# Altium footprint library passives.PCBLIB: 93 footprints (part 3 of 6)
Each footprint in its own frame and in the unit in brackets; x right, y up, seen from the top. Pads: shape width x height; smd on the part's side, far side on the other; paste and mask are expansions set on the pad; w line width, h text height; cw(c..) or ccw(c..) is an arc to the next point about the centre after c.
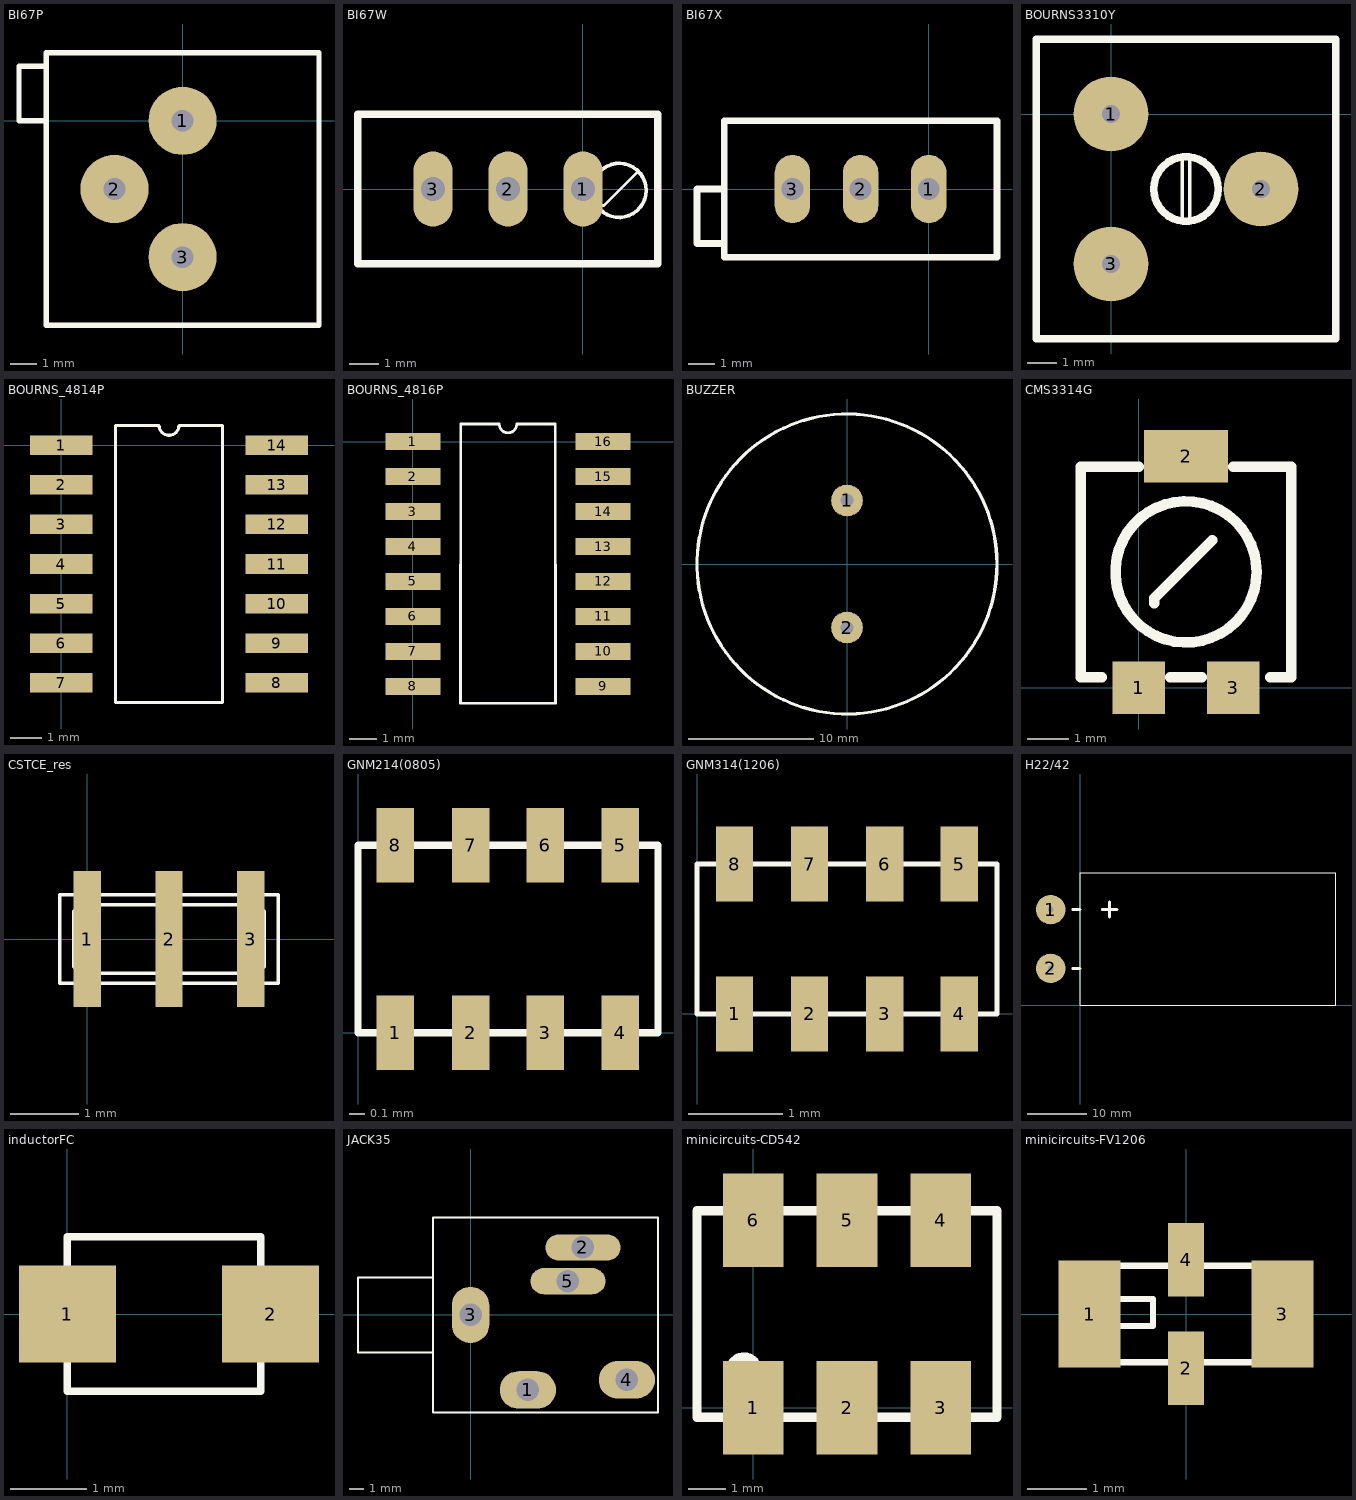
[diagram p2: the footprints below, top view; thin cyan lines are the x and y axes]

## BI67P [mil]
pads (3):
  round 100 hole 32: 1(0,0) 2(-100,-100) 3(0,-200)
Top Overlay:
  lines w8: -200,0 -240,0 -240,80 -200,80 ; -200,-300 -200,100 100,100 200,100 200,-300 -200,-300

## BI67W [mil]
pads (3):
  oval 52x100 hole 32: 1(0,0) 2(-100,0) 3(-200,0)
Top Overlay:
  circle w5: c48.16,-1.84 r36.06
  lines w3.94: 23.16,-21.84 28.16,-21.84 73.16,23.16
  lines w10: -300,-100 100,-100 100,100 -300,100 -300,-100

## BI67X [mil]
pads (3):
  oval 52x100 hole 32: 1(0,0) 2(-100,0) 3(-200,0)
Top Overlay:
  lines w10: -300,-80 -340,-80 -340,0 -300,0 ; -300,-100 100,-100 100,100 -300,100 -300,-100

## BOURNS3310Y [mil]
pads (3):
  round 100 hole 24: 1(0,0) 2(200,-100) 3(0,-200)
Top Overlay:
  circle w10: c100,-100 r43.01
  lines w5: 95,-145 95,-60 ; 105,-140 105,-60
  lines w10: -100,-300 -100,100 300,100 300,-300 -100,-300

## BOURNS_4814P [mm]
pads (14):
  rect 2x0.63 smd: 1(0,0) 2(0,-1.27) 3(0,-2.54) 4(0,-3.81) 5(0,-5.08) 6(0,-6.35) 7(0,-7.62) 8(6.9,-7.62) 9(6.9,-6.35) 10(6.9,-5.08) 11(6.9,-3.81) 12(6.9,-2.54) 13(6.9,-1.27) 14(6.9,0)
Top Overlay:
  lines w0.1: 1.735,-8.255 5.165,-8.255 5.165,0.635 3.767,0.635 cw(c3.45,0.635) 3.132,0.635 1.735,0.635 1.735,-8.255

## BOURNS_4816P [mm]
pads (16):
  rect 2x0.63 smd: 1(0,0) 2(0,-1.27) 3(0,-2.54) 4(0,-3.81) 5(0,-5.08) 6(0,-6.35) 7(0,-7.62) 8(0,-8.89) 9(6.9,-8.89) 10(6.9,-7.62) 11(6.9,-6.35) 12(6.9,-5.08) 13(6.9,-3.81) 14(6.9,-2.54) 15(6.9,-1.27) 16(6.9,0)
Top Overlay:
  lines w0.1: 1.725,-9.5 5.175,-9.5 5.165,0.635 3.767,0.635 cw(c3.45,0.635) 3.132,0.635 1.735,0.635 1.725,-9.5

## BUZZER [mm]
pads (2):
  round 2.54 hole 1: 1(0,5.08) 2(0,-5.08)
Top Overlay:
  circle w0.254: c0,0 r12

## CMS3314G [mil]
pads (3):
  rect 50x50 smd: 1(0,0) 3(90,0)
  rect 80x50 smd: 2(45,220)
Top Overlay:
  circle w10: c45,110 r67.08
  lines w10: -35,10 -55,10 -55,210 0,210 ; 15,80 15,85 70,140 ; 30,10 60,10 ; 90,210 145,210 145,10 125,10

## CSTCE_res [mm]
pads (3):
  rect 0.4x2 smd: 1(0,0) 2(1.2,0) 3(2.4,0)
Top Overlay:
  lines w0.051: -0.4,-0.65 2.8,-0.65 2.8,0.65 -0.4,0.65 -0.4,-0.65 ; -0.2,-0.4 -0.2,0.4 -0.1,0.5 2.5,0.5 2.6,0.4 2.6,0 2.6,-0.4 2.5,-0.5 -0.1,-0.5 -0.2,-0.4

## GNM214(0805) [mm]
pads (8):
  rect 0.25x0.5 smd: 1(0.25,0) 2(0.75,0) 3(1.25,0) 4(1.75,0) 5(1.75,1.25) 6(1.25,1.25) 7(0.75,1.25) 8(0.25,1.25)
Top Overlay:
  lines w0.05: 0,0 2,0 2,1.25 0,1.25 0,0

## GNM314(1206) [mm]
pads (8):
  rect 0.4x0.8 smd: 1(0.4,0) 2(1.2,0) 3(2,0) 4(2.8,0) 5(2.8,1.6) 6(2,1.6) 7(1.2,1.6) 8(0.4,1.6)
Top Overlay:
  lines w0.05: 0,0 0,1.6 3.2,1.6 3.2,0 0,0

## H22/42 [mm] "montage horizontal"
height 23
pads (2):
  round 5 hole 1: 1(-5,16.25) 2(-5,6.25)
Top Overlay:
  lines w0.1: 0,0 43.5,0 43.5,22.5 0,22.5 0,0
  lines w0.5: -1.25,6.25 0,6.25 ; -1.25,16.25 0,16.25 ; 3.767,16.28 6.25,16.25 ; 4.994,15.023 5.023,17.506

## inductorFC [mil]
pads (2):
  rect 50x50 smd: 1(0,0) 2(105,0)
Top Overlay:
  lines w3.94: 0,-40 100,-40 100,40 0,40 0,-40

## JACK35 [mil] "embase jack 3,5mm à souder"
height 300
pads (5):
  oval 150x100 hole 60: 1(153,-200) 4(417,-173)
  oval 200x70 hole 60: 2(300,180) 5(260,90)
  oval 100x150 hole 60: 3(0,0)
Top Overlay:
  lines w5: -100,-100 -300,-100 -300,100 -100,100 ; -100,-260 -100,260 500,260 500,-260 -100,-260

## minicircuits-CD542 [mil]
pads (6):
  rect 65x100 smd: 1(0,0) 2(100,0) 3(200,0) 4(200,200) 5(100,200) 6(0,200)
Top Overlay:
  circle w10: c-10,40 r14.14
  lines w10: -60,-10 260,-10 260,210 -60,210 -60,-10

## minicircuits-FV1206 [mil]
pads (4):
  rect 41x71 smd: 1(-64,0) 3(64,0)
  rect 24x49 smd: 2(0,-36) 4(0,36)
Top Overlay:
  lines w4: -64,-32 -20,-32 64,-32 64,32 30,32 -20,32 -64,32 -64,-32 ; -48,-8 -48,10 -22,10 -22,-8 -48,-8